# Altium schematic symbol library LM339D.SchLib: 1 symbol
Pins are listed as number, name and electrical type; pins without a type are passive.

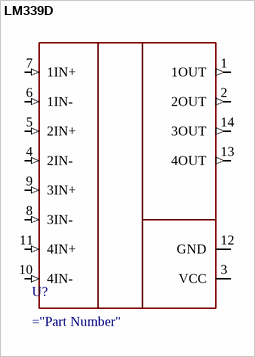
[diagram p0: symbol LM339D]

## LM339D
designator U?
Quad differential comparator; MF: Texas Instruments; MP: LM339D; SnapEDA_Link: https://www.snapeda.com/parts/LM339D/Texas+Instruments/view-part/?ref=snap; Package: SOIC-14 Texas Instruments; Value: *; Check_prices: https://www.snapeda.com/parts/LM339D/Texas+Instruments/view-part/?ref=eda
footprint SOIC127P600X175-14N
pins: 1 1OUT (out), 2 2OUT (out), 3 VCC (power), 4 2IN- (in), 5 2IN+ (in), 6 1IN- (in), 7 1IN+ (in), 8 3IN- (in), 9 3IN+ (in), 10 4IN- (in), 11 4IN+ (in), 12 GND (power), 13 4OUT (out), 14 3OUT (out)